# Altium schematic symbol library RGB.SchLib: 5 symbols
Pins are listed as number, name and electrical type; pins without a type are passive.

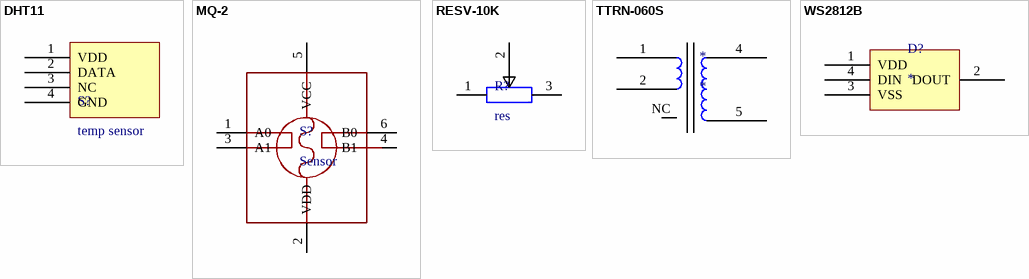
[diagram p0: symbols DHT11 to WS2812B]

## DHT11
designator S?, comment temp sensor
footprint SENSOR-TH_DHT11
pins: 1 VDD, 2 DATA, 3 NC, 4 GND

## MQ-2
designator S?, comment Sensor
footprint SENSOR-TH_MQ-2
pins: 1 A0, 2 VDD, 3 A1, 4 B1, 5 VCC (power), 6 B0

## RESV-10K
designator R?, comment res
footprint ResV
pins: 1, 2, 3

## TTRN-060S
designator *
footprint TTRN-060S
pins: 1, 2, 4 3, 5 3, NC 6

## WS2812B
designator D?
RGB LED IC
footprint 5050-4PIN-WS2812
pins: 1 VDD, 2 DOUT, 3 VSS, 4 DIN